# Altium schematic symbol library DC_DC_Converter.SchLib: 19 symbols
Pins are listed as number, name and electrical type; pins without a type are passive.

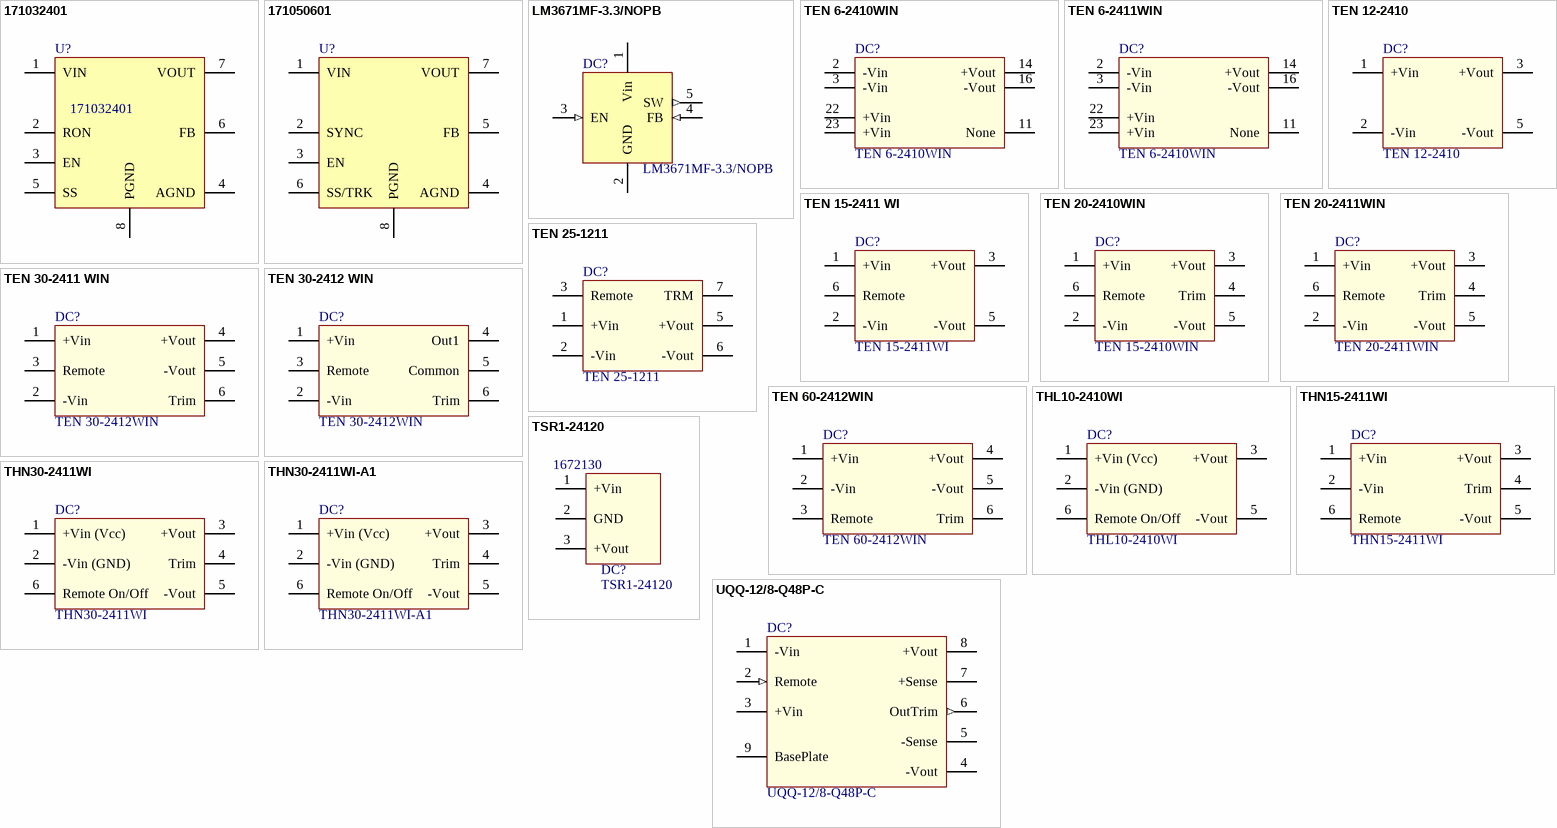
[diagram p0: symbols 171032401 to UQQ-12/8-Q48P-C]

## 171032401
designator U?
WPME-VDRM DCDC 6-42Vin, 5-24Vout, 3Aout TO263-7EP; Manufacturer: Wurth Elektronik; Manufacturer Part Number: 171032401; ComponentLink1Description: Website Link; ComponentLink1URL: https://www.we-online.com/redexpert/article/171032401?ad; ComponentLink2Description: Datasheet Link; ComponentLink2URL: https://www.we-online.com/redexpert/spec/171032401?ad; Supplier 1: Farnell; Supplier Part Number 1: 2505849
footprint WPME-VDRM_TO263-7EP (Footprint not found)
pins: 1 VIN, 2 RON, 3 EN, 4 AGND, 5 SS, 6 FB, 7 VOUT, 8 PGND

## 171050601
designator U?  (value not drawn)
WPME-VDRM DCDC 6-36Vin, 0.8-6Vout, 5Aout TO263-7EP; Manufacturer: Wurth Elektronik; Manufacturer Part Number: 171050601; ComponentLink1Description: Website Link; ComponentLink1URL: https://www.we-online.com/redexpert/article/171050601?ad; ComponentLink2Description: Datasheet Link; ComponentLink2URL: https://www.we-online.com/redexpert/spec/171050601?ad; Supplier 1: Farnell; Supplier Part Number 1: 2505850
footprint WPME-VDRM_TO263-7EP (Footprint not found)
pins: 1 VIN, 2 SYNC, 3 EN, 4 AGND, 5 FB, 6 SS/TRK, 7 VOUT, 8 PGND

## LM3671MF-3.3/NOPB
designator DC?
IC REG BUCK 3.3V 0.6A SYNC SOT23; Manufacturer: Texas Instruments; Supplier 1: Farnell; Supplier Part Number 1: 1685767; Manufacturer Part Number: LM3671MF-3.3/NOPB; ComponentLink1URL: http://www.ti.com/lit/ds/symlink/lm3671.pdf; ComponentLink1Description: Datasheet
footprint SOT23_95P280X145-5N (SOT23, 5-Leads, Body 3,1x3,2mm (max), Pitch 0,95mm, IPC Medium Densit)
pins: 1 Vin (power), 2 GND (power), 3 EN (in), 4 FB (in), 5 SW (out)

## TEN 6-2410WIN
designator DC?
Traco 3.3V 6W 1.2A; Manufacturer: TRACOPOWER; Manufacturer Part Number: TEN 6-2410WIN; ComponentLink1URL: http://www.farnell.com/datasheets/1698441.pdf; ComponentLink1Description: Datasheet; Supplier 1: Farnell; Supplier Part Number 1: 2280225
footprint TEN 6WIN single
pins: 2 -Vin, 3 -Vin, 11 None, 14 +Vout, 16 -Vout, 22 +Vin, 23 +Vin

## TEN 6-2411WIN
designator DC?, comment TEN 6-2410WIN
Traco 5V 6W 1.2A; Manufacturer: TRACOPOWER; Manufacturer Part Number: TEN 6-2410WIN; ComponentLink1URL: http://www.farnell.com/datasheets/1763521.pdf; ComponentLink1Description: Datasheet; Supplier 1: Farnell; Supplier Part Number 1: 2280226
footprint TEN 6WIN single
pins: 2 -Vin, 3 -Vin, 11 None, 14 +Vout, 16 -Vout, 22 +Vin, 23 +Vin

## TEN 12-2410
designator DC?
Traco 3.3V 15W 2.4A; Manufacturer: TRACOPOWER; Supplier 1: RS; Supplier Part Number 1: 466-7152; Manufacturer Part Number: TEN 12-2410; ComponentLink1URL: http://fr.rs-online.com/webdocs/034d/0900766b8034ddb0.pdf; ComponentLink1Description: Datasheet
footprint TEN 12
pins: 1 +Vin (power), 2 -Vin (power), 3 +Vout (power), 5 -Vout (power)

## TEN 15-2411 WI
designator DC?, comment TEN 15-2411WI
Traco 5.1V 15W 2.95A; Manufacturer: TRACOPOWER; Supplier 1: Farnell; Supplier Part Number 1: 1007486; Manufacturer Part Number: TEN 15-2411WI; ComponentLink1URL: http://www.farnell.com/datasheets/1816496.pdf; ComponentLink1Description: Datasheet
footprint TEN 15
pins: 1 +Vin (power), 2 -Vin (power), 3 +Vout (power), 5 -Vout (power), 6 Remote (power)

## TEN 20-2410WIN
designator DC?, comment TEN 15-2410WIN
Traco 3.3V 20W 5.5A; Manufacturer: TRACOPOWER; Manufacturer Part Number: TEN 15-2410WIN; ComponentLink1URL: http://www.farnell.com/datasheets/1763517.pdf; ComponentLink1Description: Datasheet; Supplier 1: Farnell; Supplier Part Number 1: 2080666
footprint TEN 20WIN SINGLE
pins: 1 +Vin (power), 2 -Vin (power), 3 +Vout (power), 4 Trim (power), 5 -Vout (power), 6 Remote (power)

## TEN 20-2411WIN
designator DC?
Traco 5V 20W 4A; Manufacturer: TRACOPOWER; Manufacturer Part Number: TEN 20-2411WIN; ComponentLink1URL: http://www.farnell.com/datasheets/2096867.pdf; ComponentLink1Description: Datasheet; Supplier 1: Farnell; Supplier Part Number 1: 1284266
footprint TEN 20WIN SINGLE
pins: 1 +Vin (power), 2 -Vin (power), 3 +Vout (power), 4 Trim (power), 5 -Vout (power), 6 Remote (power)

## TEN 25-1211
designator DC?
Traco 5.0V 25W 5A; Manufacturer: TRACOPOWER; Supplier 1: Farnell; Supplier Part Number 1: 1204988; Manufacturer Part Number: TEN 25-1211; ComponentLink1URL: http://www.farnell.com/datasheets/1698438.pdf; ComponentLink1Description: Datasheet
footprint TEN 25
pins: 1 +Vin (power), 2 -Vin (power), 3 Remote (power), 5 +Vout (power), 6 -Vout (power), 7 TRM

## TEN 30-2411 WIN
designator DC?, comment TEN 30-2412WIN
Traco 5V 40W 8A; Manufacturer: TRACOPOWER; Supplier 1: Farnell; Supplier Part Number 1: 1635233; Manufacturer Part Number: TEN 30-2412WIN; ComponentLink1URL: http://www.farnell.com/datasheets/1698441.pdf; ComponentLink1Description: Datasheet
footprint TEN 30
pins: 1 +Vin (power), 2 -Vin (power), 3 Remote (power), 4 +Vout (power), 5 -Vout (power), 6 Trim (power)

## TEN 30-2412 WIN
designator DC?, comment TEN 30-2412WIN
Traco 12.0V 30W 2.5A; Manufacturer: TRACOPOWER; Supplier 1: Farnell; Supplier Part Number 1: 1635233; Manufacturer Part Number: TEN 30-2412WIN; ComponentLink1URL: http://www.farnell.com/datasheets/1698441.pdf; ComponentLink1Description: Datasheet
footprint TEN 30
pins: 1 +Vin (power), 2 -Vin (power), 3 Remote (power), 4 Out1 (power), 5 Common (power), 6 Trim (power)

## TEN 60-2412WIN
designator DC?
Traco 12.0V 60W 5A; Manufacturer: TRACOPOWER; Manufacturer Part Number: TEN 60-2412WIN; ComponentLink1URL: http://www.farnell.com/datasheets/2200542.pdf; ComponentLink1Description: Datasheet; Supplier 1: Farnell; Supplier Part Number 1: 2451635
footprint TEN 60
pins: 1 +Vin (power), 2 -Vin (power), 3 Remote (power), 4 +Vout (power), 5 -Vout (power), 6 Trim (power)

## THL10-2410WI
designator DC?
Traco 3.3V 2.2A 10W; Manufacturer: TRACOPOWER; Manufacturer Part Number: THL10-2410WI; ComponentLink1URL: http://docs-europe.electrocomponents.com/webdocs/0f87/0900766b80f879b3.pdf; ComponentLink1Description: Datasheet; Supplier 1: RS; Supplier Part Number 1: 733-1828
footprint THL 10WI
pins: 1 +Vin (Vcc) (power), 2 -Vin (GND) (power), 3 +Vout (power), 4 nc hidden, 5 -Vout (power), 6 Remote On/Off (power)

## THN15-2411WI
designator DC?
Traco 5V 15W 3A; Manufacturer: TRACOPOWER; Manufacturer Part Number: THN15-2411WI; ComponentLink1URL: http://www.farnell.com/datasheets/1866342.pdf; ComponentLink1Description: Datasheet; Supplier 1: Farnell; Supplier Part Number 1: 1441226
footprint THN 15WI
pins: 1 +Vin (power), 2 -Vin (power), 3 +Vout (power), 4 Trim (power), 5 -Vout (power), 6 Remote (power)

## THN30-2411WI
designator DC?
Traco 5V 30W 6A; Manufacturer: TRACOPOWER; Manufacturer Part Number: THN30-2411WI; ComponentLink1URL: http://www.farnell.com/datasheets/2200567.pdf; ComponentLink1Description: Datasheet; Supplier 1: Farnell; Supplier Part Number 1: 2322194
footprint THN 30WI
pins: 1 +Vin (Vcc) (power), 2 -Vin (GND) (power), 3 +Vout (power), 4 Trim (power), 5 -Vout (power), 6 Remote On/Off (power)

## THN30-2411WI-A1
designator DC?
Traco 5V-6V 30W 6A; Manufacturer: TRACOPOWER; Manufacturer Part Number: THN30-2411WI-A1; ComponentLink1URL: https://www.tracopower.com/products/thn30wi.pdf; ComponentLink1Description: Datasheet; Supplier 1: Digikey; Supplier Part Number 1: 1951-3302-ND
footprint THN 30WI-A1
pins: 1 +Vin (Vcc) (power), 2 -Vin (GND) (power), 3 +Vout (power), 4 Trim (power), 5 -Vout (power), 6 Remote On/Off (power)

## TSR1-24120
designator DC?  Supplier Part Number 1: 1672130
Traco 12.0V 12W 1A; Manufacturer: TRACOPOWER; Manufacturer Part Number: TSR1-24120; ComponentLink1URL: https://www.tracopower.com/products/tsr1.pdf; ComponentLink1Description: Datasheet; Supplier 1: Farnell
footprint TSR1
pins: 1 +Vin (power), 2 GND (power), 3 +Vout (power)

## UQQ-12/8-Q48P-C
designator DC?
Murata 12V 96W 8A; Manufacturer: MURATA POWER SOLUTIONS; Supplier 1: Farnell; Supplier Part Number 1: 1423480; Manufacturer Part Number: UQQ-12/8-Q48P-C; ComponentLink1URL: http://www.farnell.com/datasheets/1790348.pdf; ComponentLink1Description: Datasheet
footprint UQQ
pins: 1 -Vin (power), 2 Remote (in), 3 +Vin (power), 4 -Vout (power), 5 -Sense, 6 OutTrim (out), 7 +Sense, 8 +Vout (power), 9 BasePlate hidden